# Altium schematic symbol library AF0805FR-07130RL.SchLib: 1 symbol
Pins are listed as number, name and electrical type; pins without a type are passive.

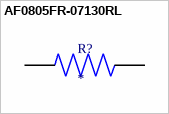
[diagram p0: symbol AF0805FR-07130RL]

## AF0805FR-07130RL
designator R?
130 Ohms Â±1% 0.125W, 1/8W Chip Resistor 0805 (2012 Metric) Anti-Sulfur, Automotive AEC-Q200 Thick Film; MF: Yageo; MP: AF0805FR-07130RL; SnapEDA_Link: https://www.snapeda.com/parts/AF0805FR-07130RL/Yageo/view-part/?ref=snap; Package: 2012 Yageo; Value: *; Check_prices: https://www.snapeda.com/parts/AF0805FR-07130RL/Yageo/view-part/?ref=eda
footprint RESC2012X60N
pins: 1, 2